# EAGLE library part TPS55340 (library JCM)
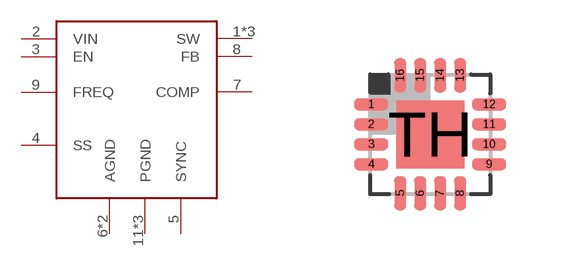
[diagram p9: symbol with the pads of QFN16; footprint QFN16]

Designator prefix -

## TPS55340  [QFN16]
1  SW
2  VIN
3  EN
4  SS
5  SYNC
6  AGND
7  COMP
8  FB
9  FREQ
11  PGND
12  PGND
13  PGND
15  SW
16  SW
TH  AGND

## Footprint QFN16 (pad centres in mm)
RTE (S-PQFP-N16) 3x3 mm Source: www.ti.com .. tpa6132a2 direct path stereo $.65.pdf
smd 0.85 x 0.3: 1 -1.475,0.75; 2 -1.475,0.25; 3 -1.475,-0.25; 4 -1.475,-0.75; 9 1.475,-0.75; 10 1.475,-0.25; 11 1.475,0.25; 12 1.475,0.75
smd 0.3 x 0.85: 5 -0.75,-1.475; 6 -0.25,-1.475; 7 0.25,-1.475; 8 0.75,-1.475; 13 0.75,1.475; 14 0.25,1.475; 15 -0.25,1.475; 16 -0.75,1.475
smd 1.7 x 1.7: TH 0,0